# EAGLE library part DA14580 (library DA14580)
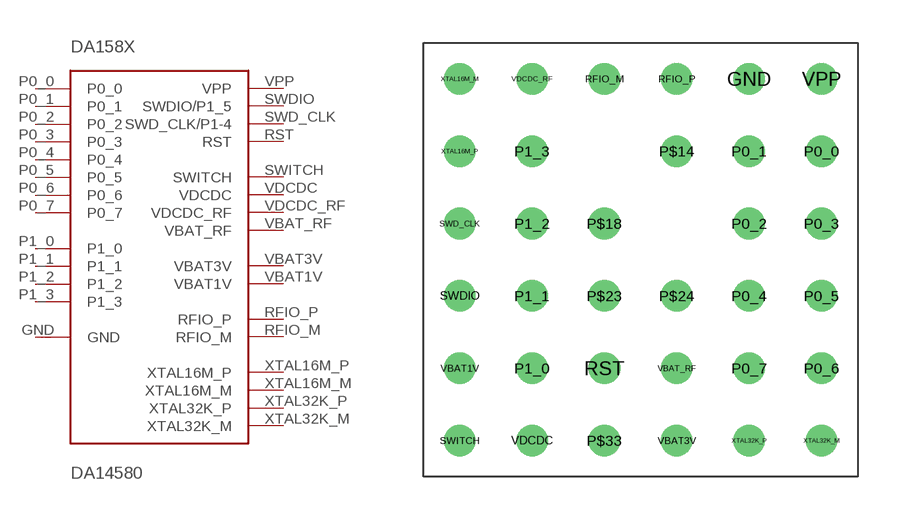
[diagram p0: symbol with the pads of WCSP34; footprint WCSP34]

Designator prefix DA158X

## DA14580  [WCSP34]
GND  GND
P0_0  P0_0
P0_1  P0_1
P0_2  P0_2
P0_3  P0_3
P0_4  P0_4
P0_5  P0_5
P0_6  P0_6
P0_7  P0_7
P1_0  P1_0
P1_1  P1_1
P1_2  P1_2
P1_3  P1_3
RFIO_M  RFIO_M
RFIO_P  RFIO_P
RST  RST
SWD_CLK  SWD_CLK/P1-4
SWDIO  SWDIO/P1_5
SWITCH  SWITCH
VBAT1V  VBAT1V
VBAT3V  VBAT3V
VBAT_RF  VBAT_RF
VDCDC  VDCDC
VDCDC_RF  VDCDC_RF
VPP  VPP
XTAL16M_M  XTAL16M_M
XTAL16M_P  XTAL16M_P
XTAL32K_M  XTAL32K_M
XTAL32K_P  XTAL32K_P

## Footprint WCSP34 (pad centres in mm)
drill 0.6: GND 11.43,-1.27; P0_0 13.97,-3.81; P0_1 11.43,-3.81; P0_2 11.43,-6.35; P0_3 13.97,-6.35; P0_4 11.43,-8.89; P0_5 13.97,-8.89; P0_6 13.97,-11.43; P0_7 11.43,-11.43; P1_0 3.81,-11.43; P1_1 3.81,-8.89; P1_2 3.81,-6.35; P1_3 3.81,-3.81; P$14 8.89,-3.81; P$18 6.35,-6.35; P$23 6.35,-8.89; P$24 8.89,-8.89; P$33 6.35,-13.97; RFIO_M 6.35,-1.27; RFIO_P 8.89,-1.27; RST 6.35,-11.43; SWD_CLK 1.27,-6.35; SWDIO 1.27,-8.89; SWITCH 1.27,-13.97; VBAT1V 1.27,-11.43; VBAT3V 8.89,-13.97; VBAT_RF 8.89,-11.43; VDCDC 3.81,-13.97; VDCDC_RF 3.81,-1.27; VPP 13.97,-1.27; XTAL16M_M 1.27,-1.27; XTAL16M_P 1.27,-3.81; XTAL32K_M 13.97,-13.97; XTAL32K_P 11.43,-13.97